# EAGLE library part 1X06_SMD (library Strutz Electronic Industries)
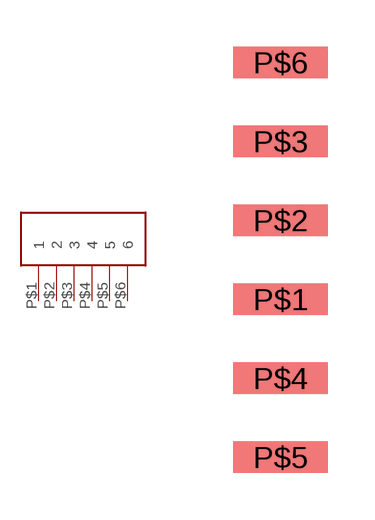
[diagram p8: symbol with the pads of 1X06_SMD; footprint 1X06_SMD]

Designator prefix -

## 1X06_SMD  [1X06_SMD]
P$1  1
P$2  2
P$3  3
P$4  4
P$5  5
P$6  6

## Footprint 1X06_SMD (pad centres in mm)
smd 3.048 x 1.016: P$1 0,-1.27; P$2 0,1.27; P$3 0,3.81; P$4 0,-3.81; P$5 0,-6.35; P$6 0,6.35